# Altium integrated library Linear Technology Power Management Hot Swap Controllers.IntLib: 992 symbols (part 85 of 93)
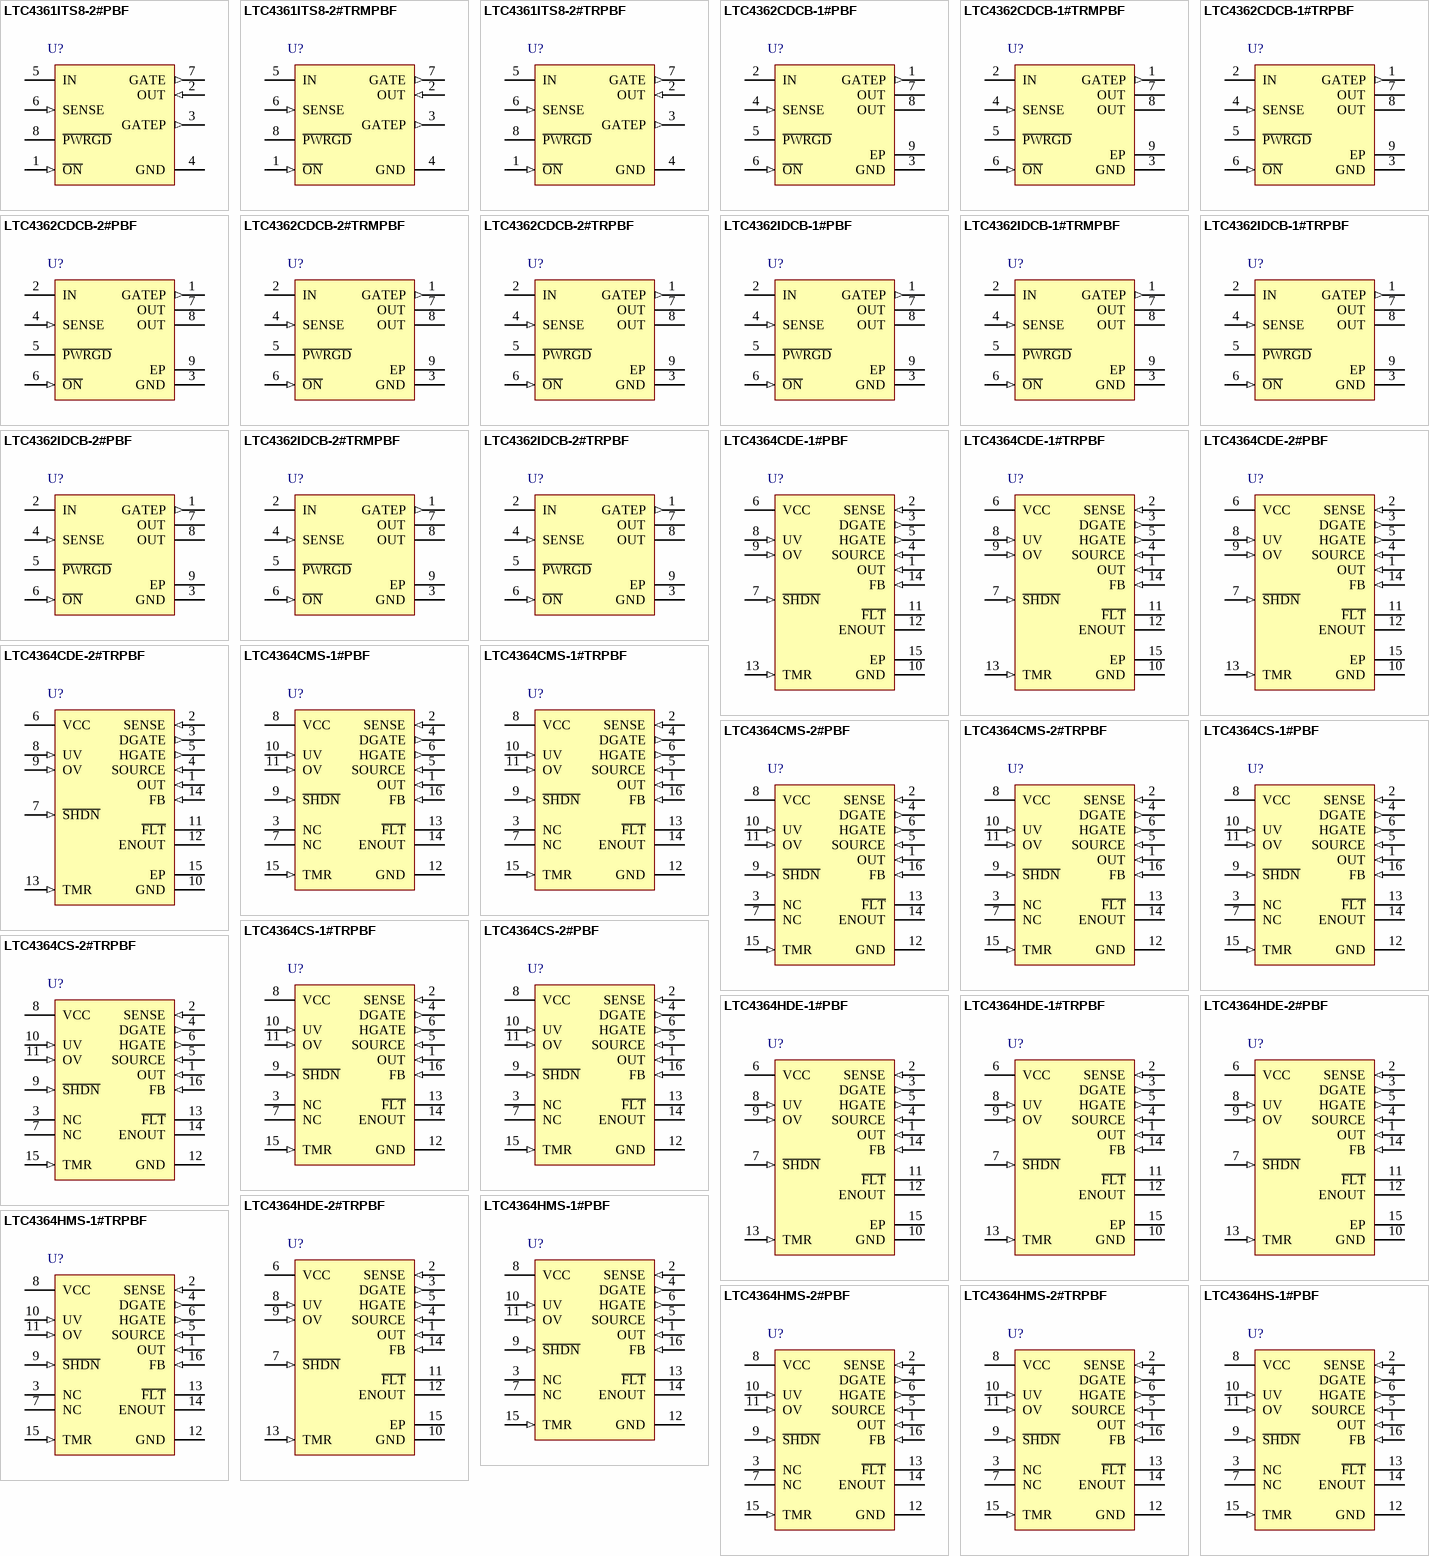
[diagram p121: symbols LTC4361ITS8-2#PBF to LTC4364HS-1#PBF]

## LTC4362CDCB-1#PBF
designator U?
1.2 A Overvoltage / Overcurrent Protector, 2.5 to 28 V Vin, 8-pin SON (DCB-8), 0 to 70 degC, Pb-Free; Manufacturer: Linear Technology; PartNumber: LTC4362CDCB-1#PBF; Active Limiting: no; Circuit Breaker Accuracy(%): 20; Circuit Breaker Threshold: 1.5 A; Circuit Breakers(#): 1; Extended Temp: C, I; DatasheetVersion: Rev. A; PackageVersion: Rev. A, 06/2010; PackageReference: DCB-8; PackageDescription: 8-Pin Plastic DFN, Body 2 x 3 mm, Pitch 0.45 mm; Supplier 1: Newark; Supplier Part Number 1: 84R7843; Fault: no; Foldback: no; Power Good: no; Reset: no; RoHS: TRUE; Vin Range: 2.5 to 28 V; Mounting Technology: Surface Mount; ComponentLink1Description: Manufacturer URL; ComponentLink1URL: http://www.linear.com/; ComponentLink2Description: Datasheet; ComponentLink2URL: http://cds.linear.com/docs/en/datasheet/436212fa.pdf; ComponentLink3Description: Package Specification; ComponentLink3URL: http://cds.linear.com/docs/en/packaging/DFN_8_05-08-1718.pdf
footprint LT-DCB-8_V (SON, 8-Leads, Body 3x2mm, Pitch 0.45mm, Thermal Pad 1.65x1.35mm)
pins: 1 GATEP (out) "Gate Drive for External P-channel MOSFET. GATEP connects to the gate of an optional external P-channel MOSFET to protect against negative voltages at IN. Internally clamped to 5.8V below VIN. An internal 2M resistor connects (See Datasheet)", 2 IN (power) "Supply Voltage Input. Connect this pin to the input power supply. This pin has an overvoltage threshold of 5.8V. After an overvoltage event, this pin must fall below VIN(OV) - deltaVOV to release the overvoltage lockout. (See Datasheet)", 3 GND (power) "Device Ground.", 4 SENSE (in) "Current Sense Node and Internal N-channel MOSFET Drain. An internal sense resistor between IN and SENSE is used to implement the 1.5A overcurrent threshold. The exposed pad is connected to SENSE and must be soldered to an (See Datasheet)", 5 ~{PWRGD} (hiz) "Power Good Status. Open-drain output with internal 500k resistive pull-up to OUT. Pulls low 65ms after the MOSFET gate ramps above its internal gate high threshold.", 6 ~{ON} (in) "On Control Input. A logic low at O\N\ enables the LTC4362. A logic high at O\N\ activates a low current pulldown on the gate of the internal N-channel MOSFET and causes the LTC4362 to enter a low current sleep mode. An (See Datasheet)", 7 OUT (power) "Source of Internal N-channel MOSFET. Connect to load.", 8 OUT (power) "Source of Internal N-channel MOSFET. Connect to load.", 9 EP (power) "Current Sense Node and Internal N-channel MOSFET Drain. An internal sense resistor between IN and SENSE is used to implement the 1.5A overcurrent threshold. The exposed pad is connected to SENSE and must be soldered to an (See Datasheet)"

## LTC4362CDCB-1#TRMPBF
designator U?
1.2 A Overvoltage / Overcurrent Protector, 2.5 to 28 V Vin, 8-pin SON (DCB-8), 0 to 70 degC, Pb-Free, Mini Tape and Reel; Manufacturer: Linear Technology; PartNumber: LTC4362CDCB-1#TRMPBF; Active Limiting: no; Circuit Breaker Accuracy(%): 20; Circuit Breaker Threshold: 1.5 A; Circuit Breakers(#): 1; Extended Temp: C, I; DatasheetVersion: Rev. A; PackageVersion: Rev. A, 06/2010; PackageReference: DCB-8; PackageDescription: 8-Pin Plastic DFN, Body 2 x 3 mm, Pitch 0.45 mm; Supplier 1: Digi-Key; Supplier Part Number 1: LTC4362CDCB-1#TRMPBFTR-ND; Supplier 2: Digi-Key; Supplier Part Number 2: LTC4362CDCB-1#TRMPBFCT-ND; Supplier 3: Digi-Key; Supplier Part Number 3: LTC4362CDCB-1#TRMPBFDKR-ND; Fault: no; Foldback: no; Packing: Mini Tape and Reel; Power Good: no; Reset: no; RoHS: TRUE; Vin Range: 2.5 to 28 V; Mounting Technology: Surface Mount; ComponentLink1Description: Manufacturer URL; ComponentLink1URL: http://www.linear.com/; ComponentLink2Description: Datasheet; ComponentLink2URL: http://cds.linear.com/docs/en/datasheet/436212fa.pdf; ComponentLink3Description: Package Specification; ComponentLink3URL: http://cds.linear.com/docs/en/packaging/DFN_8_05-08-1718.pdf
footprint LT-DCB-8_V (SON, 8-Leads, Body 3x2mm, Pitch 0.45mm, Thermal Pad 1.65x1.35mm)
pins: 1 GATEP (out) "Gate Drive for External P-channel MOSFET. GATEP connects to the gate of an optional external P-channel MOSFET to protect against negative voltages at IN. Internally clamped to 5.8V below VIN. An internal 2M resistor connects (See Datasheet)", 2 IN (power) "Supply Voltage Input. Connect this pin to the input power supply. This pin has an overvoltage threshold of 5.8V. After an overvoltage event, this pin must fall below VIN(OV) - deltaVOV to release the overvoltage lockout. (See Datasheet)", 3 GND (power) "Device Ground.", 4 SENSE (in) "Current Sense Node and Internal N-channel MOSFET Drain. An internal sense resistor between IN and SENSE is used to implement the 1.5A overcurrent threshold. The exposed pad is connected to SENSE and must be soldered to an (See Datasheet)", 5 ~{PWRGD} (hiz) "Power Good Status. Open-drain output with internal 500k resistive pull-up to OUT. Pulls low 65ms after the MOSFET gate ramps above its internal gate high threshold.", 6 ~{ON} (in) "On Control Input. A logic low at O\N\ enables the LTC4362. A logic high at O\N\ activates a low current pulldown on the gate of the internal N-channel MOSFET and causes the LTC4362 to enter a low current sleep mode. An (See Datasheet)", 7 OUT (power) "Source of Internal N-channel MOSFET. Connect to load.", 8 OUT (power) "Source of Internal N-channel MOSFET. Connect to load.", 9 EP (power) "Current Sense Node and Internal N-channel MOSFET Drain. An internal sense resistor between IN and SENSE is used to implement the 1.5A overcurrent threshold. The exposed pad is connected to SENSE and must be soldered to an (See Datasheet)"

## LTC4362CDCB-1#TRPBF
designator U?
1.2 A Overvoltage / Overcurrent Protector, 2.5 to 28 V Vin, 8-pin SON (DCB-8), 0 to 70 degC, Pb-Free, Tape and Reel; Manufacturer: Linear Technology; PartNumber: LTC4362CDCB-1#TRPBF; Active Limiting: no; Circuit Breaker Accuracy(%): 20; Circuit Breaker Threshold: 1.5 A; Circuit Breakers(#): 1; Extended Temp: C, I; DatasheetVersion: Rev. A; PackageVersion: Rev. A, 06/2010; PackageReference: DCB-8; PackageDescription: 8-Pin Plastic DFN, Body 2 x 3 mm, Pitch 0.45 mm; Supplier 1: Digi-Key; Supplier Part Number 1: LTC4362CDCB-1#TRPBF-ND; Fault: no; Foldback: no; Packing: Tape and Reel; Power Good: no; Reset: no; RoHS: TRUE; Vin Range: 2.5 to 28 V; Mounting Technology: Surface Mount; ComponentLink1Description: Manufacturer URL; ComponentLink1URL: http://www.linear.com/; ComponentLink2Description: Datasheet; ComponentLink2URL: http://cds.linear.com/docs/en/datasheet/436212fa.pdf; ComponentLink3Description: Package Specification; ComponentLink3URL: http://cds.linear.com/docs/en/packaging/DFN_8_05-08-1718.pdf
footprint LT-DCB-8_V (SON, 8-Leads, Body 3x2mm, Pitch 0.45mm, Thermal Pad 1.65x1.35mm)
pins: 1 GATEP (out) "Gate Drive for External P-channel MOSFET. GATEP connects to the gate of an optional external P-channel MOSFET to protect against negative voltages at IN. Internally clamped to 5.8V below VIN. An internal 2M resistor connects (See Datasheet)", 2 IN (power) "Supply Voltage Input. Connect this pin to the input power supply. This pin has an overvoltage threshold of 5.8V. After an overvoltage event, this pin must fall below VIN(OV) - deltaVOV to release the overvoltage lockout. (See Datasheet)", 3 GND (power) "Device Ground.", 4 SENSE (in) "Current Sense Node and Internal N-channel MOSFET Drain. An internal sense resistor between IN and SENSE is used to implement the 1.5A overcurrent threshold. The exposed pad is connected to SENSE and must be soldered to an (See Datasheet)", 5 ~{PWRGD} (hiz) "Power Good Status. Open-drain output with internal 500k resistive pull-up to OUT. Pulls low 65ms after the MOSFET gate ramps above its internal gate high threshold.", 6 ~{ON} (in) "On Control Input. A logic low at O\N\ enables the LTC4362. A logic high at O\N\ activates a low current pulldown on the gate of the internal N-channel MOSFET and causes the LTC4362 to enter a low current sleep mode. An (See Datasheet)", 7 OUT (power) "Source of Internal N-channel MOSFET. Connect to load.", 8 OUT (power) "Source of Internal N-channel MOSFET. Connect to load.", 9 EP (power) "Current Sense Node and Internal N-channel MOSFET Drain. An internal sense resistor between IN and SENSE is used to implement the 1.5A overcurrent threshold. The exposed pad is connected to SENSE and must be soldered to an (See Datasheet)"

## LTC4362CDCB-2#PBF
designator U?
1.2 A Overvoltage / Overcurrent Protector, 2.5 to 28 V Vin, 8-pin SON (DCB-8), 0 to 70 degC, Pb-Free; Manufacturer: Linear Technology; PartNumber: LTC4362CDCB-2#PBF; Active Limiting: no; Circuit Breaker Accuracy(%): 20; Circuit Breaker Threshold: 1.5 A; Circuit Breakers(#): 1; Extended Temp: C, I; DatasheetVersion: Rev. A; PackageVersion: Rev. A, 06/2010; PackageReference: DCB-8; PackageDescription: 8-Pin Plastic DFN, Body 2 x 3 mm, Pitch 0.45 mm; Supplier 1: Farnell; Supplier Part Number 1: 1847655; Supplier 2: Newark; Supplier Part Number 2: 84R7844; Fault: no; Foldback: no; Power Good: no; RoHS: TRUE; Vin Range: 2.5 to 28 V; Mounting Technology: Surface Mount; ComponentLink1Description: Manufacturer URL; ComponentLink1URL: http://www.linear.com/; ComponentLink2Description: Datasheet; ComponentLink2URL: http://cds.linear.com/docs/en/datasheet/436212fa.pdf; ComponentLink3Description: Package Specification; ComponentLink3URL: http://cds.linear.com/docs/en/packaging/DFN_8_05-08-1718.pdf
footprint LT-DCB-8_V (SON, 8-Leads, Body 3x2mm, Pitch 0.45mm, Thermal Pad 1.65x1.35mm)
pins: 1 GATEP (out) "Gate Drive for External P-channel MOSFET. GATEP connects to the gate of an optional external P-channel MOSFET to protect against negative voltages at IN. Internally clamped to 5.8V below VIN. An internal 2M resistor connects (See Datasheet)", 2 IN (power) "Supply Voltage Input. Connect this pin to the input power supply. This pin has an overvoltage threshold of 5.8V. After an overvoltage event, this pin must fall below VIN(OV) - deltaVOV to release the overvoltage lockout. (See Datasheet)", 3 GND (power) "Device Ground.", 4 SENSE (in) "Current Sense Node and Internal N-channel MOSFET Drain. An internal sense resistor between IN and SENSE is used to implement the 1.5A overcurrent threshold. The exposed pad is connected to SENSE and must be soldered to an (See Datasheet)", 5 ~{PWRGD} (hiz) "Power Good Status. Open-drain output with internal 500k resistive pull-up to OUT. Pulls low 65ms after the MOSFET gate ramps above its internal gate high threshold.", 6 ~{ON} (in) "On Control Input. A logic low at O\N\ enables the LTC4362. A logic high at O\N\ activates a low current pulldown on the gate of the internal N-channel MOSFET and causes the LTC4362 to enter a low current sleep mode. An (See Datasheet)", 7 OUT (power) "Source of Internal N-channel MOSFET. Connect to load.", 8 OUT (power) "Source of Internal N-channel MOSFET. Connect to load.", 9 EP (power) "Current Sense Node and Internal N-channel MOSFET Drain. An internal sense resistor between IN and SENSE is used to implement the 1.5A overcurrent threshold. The exposed pad is connected to SENSE and must be soldered to an (See Datasheet)"

## LTC4362CDCB-2#TRMPBF
designator U?
1.2 A Overvoltage / Overcurrent Protector, 2.5 to 28 V Vin, 8-pin SON (DCB-8), 0 to 70 degC, Pb-Free, Mini Tape and Reel; Manufacturer: Linear Technology; PartNumber: LTC4362CDCB-2#TRMPBF; Active Limiting: no; Circuit Breaker Accuracy(%): 20; Circuit Breaker Threshold: 1.5 A; Circuit Breakers(#): 1; Extended Temp: C, I; DatasheetVersion: Rev. A; PackageVersion: Rev. A, 06/2010; PackageReference: DCB-8; PackageDescription: 8-Pin Plastic DFN, Body 2 x 3 mm, Pitch 0.45 mm; Supplier 1: Digi-Key; Supplier Part Number 1: LTC4362CDCB-2#TRMPBFTR-ND; Supplier 2: Digi-Key; Supplier Part Number 2: LTC4362CDCB-2#TRMPBFCT-ND; Supplier 3: Digi-Key; Supplier Part Number 3: LTC4362CDCB-2#TRMPBFDKR-ND; Fault: no; Foldback: no; Packing: Mini Tape and Reel; Power Good: no; RoHS: TRUE; Vin Range: 2.5 to 28 V; Mounting Technology: Surface Mount; ComponentLink1Description: Manufacturer URL; ComponentLink1URL: http://www.linear.com/; ComponentLink2Description: Datasheet; ComponentLink2URL: http://cds.linear.com/docs/en/datasheet/436212fa.pdf; ComponentLink3Description: Package Specification; ComponentLink3URL: http://cds.linear.com/docs/en/packaging/DFN_8_05-08-1718.pdf
footprint LT-DCB-8_V (SON, 8-Leads, Body 3x2mm, Pitch 0.45mm, Thermal Pad 1.65x1.35mm)
pins: 1 GATEP (out) "Gate Drive for External P-channel MOSFET. GATEP connects to the gate of an optional external P-channel MOSFET to protect against negative voltages at IN. Internally clamped to 5.8V below VIN. An internal 2M resistor connects (See Datasheet)", 2 IN (power) "Supply Voltage Input. Connect this pin to the input power supply. This pin has an overvoltage threshold of 5.8V. After an overvoltage event, this pin must fall below VIN(OV) - deltaVOV to release the overvoltage lockout. (See Datasheet)", 3 GND (power) "Device Ground.", 4 SENSE (in) "Current Sense Node and Internal N-channel MOSFET Drain. An internal sense resistor between IN and SENSE is used to implement the 1.5A overcurrent threshold. The exposed pad is connected to SENSE and must be soldered to an (See Datasheet)", 5 ~{PWRGD} (hiz) "Power Good Status. Open-drain output with internal 500k resistive pull-up to OUT. Pulls low 65ms after the MOSFET gate ramps above its internal gate high threshold.", 6 ~{ON} (in) "On Control Input. A logic low at O\N\ enables the LTC4362. A logic high at O\N\ activates a low current pulldown on the gate of the internal N-channel MOSFET and causes the LTC4362 to enter a low current sleep mode. An (See Datasheet)", 7 OUT (power) "Source of Internal N-channel MOSFET. Connect to load.", 8 OUT (power) "Source of Internal N-channel MOSFET. Connect to load.", 9 EP (power) "Current Sense Node and Internal N-channel MOSFET Drain. An internal sense resistor between IN and SENSE is used to implement the 1.5A overcurrent threshold. The exposed pad is connected to SENSE and must be soldered to an (See Datasheet)"

## LTC4362CDCB-2#TRPBF
designator U?
1.2 A Overvoltage / Overcurrent Protector, 2.5 to 28 V Vin, 8-pin SON (DCB-8), 0 to 70 degC, Pb-Free, Tape and Reel; Manufacturer: Linear Technology; PartNumber: LTC4362CDCB-2#TRPBF; Active Limiting: no; Circuit Breaker Accuracy(%): 20; Circuit Breaker Threshold: 1.5 A; Circuit Breakers(#): 1; Extended Temp: C, I; DatasheetVersion: Rev. A; PackageVersion: Rev. A, 06/2010; PackageReference: DCB-8; PackageDescription: 8-Pin Plastic DFN, Body 2 x 3 mm, Pitch 0.45 mm; Supplier 1: Digi-Key; Supplier Part Number 1: LTC4362CDCB-2#TRPBF-ND; Fault: no; Foldback: no; Packing: Tape and Reel; Power Good: no; RoHS: TRUE; Vin Range: 2.5 to 28 V; Mounting Technology: Surface Mount; ComponentLink1Description: Manufacturer URL; ComponentLink1URL: http://www.linear.com/; ComponentLink2Description: Datasheet; ComponentLink2URL: http://cds.linear.com/docs/en/datasheet/436212fa.pdf; ComponentLink3Description: Package Specification; ComponentLink3URL: http://cds.linear.com/docs/en/packaging/DFN_8_05-08-1718.pdf
footprint LT-DCB-8_V (SON, 8-Leads, Body 3x2mm, Pitch 0.45mm, Thermal Pad 1.65x1.35mm)
pins: 1 GATEP (out) "Gate Drive for External P-channel MOSFET. GATEP connects to the gate of an optional external P-channel MOSFET to protect against negative voltages at IN. Internally clamped to 5.8V below VIN. An internal 2M resistor connects (See Datasheet)", 2 IN (power) "Supply Voltage Input. Connect this pin to the input power supply. This pin has an overvoltage threshold of 5.8V. After an overvoltage event, this pin must fall below VIN(OV) - deltaVOV to release the overvoltage lockout. (See Datasheet)", 3 GND (power) "Device Ground.", 4 SENSE (in) "Current Sense Node and Internal N-channel MOSFET Drain. An internal sense resistor between IN and SENSE is used to implement the 1.5A overcurrent threshold. The exposed pad is connected to SENSE and must be soldered to an (See Datasheet)", 5 ~{PWRGD} (hiz) "Power Good Status. Open-drain output with internal 500k resistive pull-up to OUT. Pulls low 65ms after the MOSFET gate ramps above its internal gate high threshold.", 6 ~{ON} (in) "On Control Input. A logic low at O\N\ enables the LTC4362. A logic high at O\N\ activates a low current pulldown on the gate of the internal N-channel MOSFET and causes the LTC4362 to enter a low current sleep mode. An (See Datasheet)", 7 OUT (power) "Source of Internal N-channel MOSFET. Connect to load.", 8 OUT (power) "Source of Internal N-channel MOSFET. Connect to load.", 9 EP (power) "Current Sense Node and Internal N-channel MOSFET Drain. An internal sense resistor between IN and SENSE is used to implement the 1.5A overcurrent threshold. The exposed pad is connected to SENSE and must be soldered to an (See Datasheet)"

## LTC4362IDCB-1#PBF
designator U?
1.2 A Overvoltage / Overcurrent Protector, 2.5 to 28 V Vin, 8-pin SON (DCB-8), -40 to 85 degC, Pb-Free; Manufacturer: Linear Technology; PartNumber: LTC4362IDCB-1#PBF; Active Limiting: no; Circuit Breaker Accuracy(%): 20; Circuit Breaker Threshold: 1.5 A; Circuit Breakers(#): 1; Extended Temp: C, I; DatasheetVersion: Rev. A; PackageVersion: Rev. A, 06/2010; PackageReference: DCB-8; PackageDescription: 8-Pin Plastic DFN, Body 2 x 3 mm, Pitch 0.45 mm; Fault: no; Foldback: no; Power Good: no; Reset: no; RoHS: TRUE; Vin Range: 2.5 to 28 V; Mounting Technology: Surface Mount; ComponentLink1Description: Manufacturer URL; ComponentLink1URL: http://www.linear.com/; ComponentLink2Description: Datasheet; ComponentLink2URL: http://cds.linear.com/docs/en/datasheet/436212fa.pdf; ComponentLink3Description: Package Specification; ComponentLink3URL: http://cds.linear.com/docs/en/packaging/DFN_8_05-08-1718.pdf
footprint LT-DCB-8_V (SON, 8-Leads, Body 3x2mm, Pitch 0.45mm, Thermal Pad 1.65x1.35mm)
pins: 1 GATEP (out) "Gate Drive for External P-channel MOSFET. GATEP connects to the gate of an optional external P-channel MOSFET to protect against negative voltages at IN. Internally clamped to 5.8V below VIN. An internal 2M resistor connects (See Datasheet)", 2 IN (power) "Supply Voltage Input. Connect this pin to the input power supply. This pin has an overvoltage threshold of 5.8V. After an overvoltage event, this pin must fall below VIN(OV) - deltaVOV to release the overvoltage lockout. (See Datasheet)", 3 GND (power) "Device Ground.", 4 SENSE (in) "Current Sense Node and Internal N-channel MOSFET Drain. An internal sense resistor between IN and SENSE is used to implement the 1.5A overcurrent threshold. The exposed pad is connected to SENSE and must be soldered to an (See Datasheet)", 5 ~{PWRGD} (hiz) "Power Good Status. Open-drain output with internal 500k resistive pull-up to OUT. Pulls low 65ms after the MOSFET gate ramps above its internal gate high threshold.", 6 ~{ON} (in) "On Control Input. A logic low at O\N\ enables the LTC4362. A logic high at O\N\ activates a low current pulldown on the gate of the internal N-channel MOSFET and causes the LTC4362 to enter a low current sleep mode. An (See Datasheet)", 7 OUT (power) "Source of Internal N-channel MOSFET. Connect to load.", 8 OUT (power) "Source of Internal N-channel MOSFET. Connect to load.", 9 EP (power) "Current Sense Node and Internal N-channel MOSFET Drain. An internal sense resistor between IN and SENSE is used to implement the 1.5A overcurrent threshold. The exposed pad is connected to SENSE and must be soldered to an (See Datasheet)"

## LTC4362IDCB-1#TRMPBF
designator U?
1.2 A Overvoltage / Overcurrent Protector, 2.5 to 28 V Vin, 8-pin SON (DCB-8), -40 to 85 degC, Pb-Free, Mini Tape and Reel; Manufacturer: Linear Technology; PartNumber: LTC4362IDCB-1#TRMPBF; Active Limiting: no; Circuit Breaker Accuracy(%): 20; Circuit Breaker Threshold: 1.5 A; Circuit Breakers(#): 1; Extended Temp: C, I; DatasheetVersion: Rev. A; PackageVersion: Rev. A, 06/2010; PackageReference: DCB-8; PackageDescription: 8-Pin Plastic DFN, Body 2 x 3 mm, Pitch 0.45 mm; Supplier 1: Digi-Key; Supplier Part Number 1: LTC4362IDCB-1#TRMPBFTR-ND; Supplier 2: Digi-Key; Supplier Part Number 2: LTC4362IDCB-1#TRMPBFCT-ND; Supplier 3: Digi-Key; Supplier Part Number 3: LTC4362IDCB-1#TRMPBFDKR-ND; Fault: no; Foldback: no; Packing: Mini Tape and Reel; Power Good: no; Reset: no; RoHS: TRUE; Vin Range: 2.5 to 28 V; Mounting Technology: Surface Mount; ComponentLink1Description: Manufacturer URL; ComponentLink1URL: http://www.linear.com/; ComponentLink2Description: Datasheet; ComponentLink2URL: http://cds.linear.com/docs/en/datasheet/436212fa.pdf; ComponentLink3Description: Package Specification; ComponentLink3URL: http://cds.linear.com/docs/en/packaging/DFN_8_05-08-1718.pdf
footprint LT-DCB-8_V (SON, 8-Leads, Body 3x2mm, Pitch 0.45mm, Thermal Pad 1.65x1.35mm)
pins: 1 GATEP (out) "Gate Drive for External P-channel MOSFET. GATEP connects to the gate of an optional external P-channel MOSFET to protect against negative voltages at IN. Internally clamped to 5.8V below VIN. An internal 2M resistor connects (See Datasheet)", 2 IN (power) "Supply Voltage Input. Connect this pin to the input power supply. This pin has an overvoltage threshold of 5.8V. After an overvoltage event, this pin must fall below VIN(OV) - deltaVOV to release the overvoltage lockout. (See Datasheet)", 3 GND (power) "Device Ground.", 4 SENSE (in) "Current Sense Node and Internal N-channel MOSFET Drain. An internal sense resistor between IN and SENSE is used to implement the 1.5A overcurrent threshold. The exposed pad is connected to SENSE and must be soldered to an (See Datasheet)", 5 ~{PWRGD} (hiz) "Power Good Status. Open-drain output with internal 500k resistive pull-up to OUT. Pulls low 65ms after the MOSFET gate ramps above its internal gate high threshold.", 6 ~{ON} (in) "On Control Input. A logic low at O\N\ enables the LTC4362. A logic high at O\N\ activates a low current pulldown on the gate of the internal N-channel MOSFET and causes the LTC4362 to enter a low current sleep mode. An (See Datasheet)", 7 OUT (power) "Source of Internal N-channel MOSFET. Connect to load.", 8 OUT (power) "Source of Internal N-channel MOSFET. Connect to load.", 9 EP (power) "Current Sense Node and Internal N-channel MOSFET Drain. An internal sense resistor between IN and SENSE is used to implement the 1.5A overcurrent threshold. The exposed pad is connected to SENSE and must be soldered to an (See Datasheet)"

## LTC4362IDCB-1#TRPBF
designator U?
1.2 A Overvoltage / Overcurrent Protector, 2.5 to 28 V Vin, 8-pin SON (DCB-8), -40 to 85 degC, Pb-Free, Tape and Reel; Manufacturer: Linear Technology; PartNumber: LTC4362IDCB-1#TRPBF; Active Limiting: no; Circuit Breaker Accuracy(%): 20; Circuit Breaker Threshold: 1.5 A; Circuit Breakers(#): 1; Extended Temp: C, I; DatasheetVersion: Rev. A; PackageVersion: Rev. A, 06/2010; PackageReference: DCB-8; PackageDescription: 8-Pin Plastic DFN, Body 2 x 3 mm, Pitch 0.45 mm; Supplier 1: Digi-Key; Supplier Part Number 1: LTC4362IDCB-1#TRPBF-ND; Fault: no; Foldback: no; Packing: Tape and Reel; Power Good: no; Reset: no; RoHS: TRUE; Vin Range: 2.5 to 28 V; Mounting Technology: Surface Mount; ComponentLink1Description: Manufacturer URL; ComponentLink1URL: http://www.linear.com/; ComponentLink2Description: Datasheet; ComponentLink2URL: http://cds.linear.com/docs/en/datasheet/436212fa.pdf; ComponentLink3Description: Package Specification; ComponentLink3URL: http://cds.linear.com/docs/en/packaging/DFN_8_05-08-1718.pdf
footprint LT-DCB-8_V (SON, 8-Leads, Body 3x2mm, Pitch 0.45mm, Thermal Pad 1.65x1.35mm)
pins: 1 GATEP (out) "Gate Drive for External P-channel MOSFET. GATEP connects to the gate of an optional external P-channel MOSFET to protect against negative voltages at IN. Internally clamped to 5.8V below VIN. An internal 2M resistor connects (See Datasheet)", 2 IN (power) "Supply Voltage Input. Connect this pin to the input power supply. This pin has an overvoltage threshold of 5.8V. After an overvoltage event, this pin must fall below VIN(OV) - deltaVOV to release the overvoltage lockout. (See Datasheet)", 3 GND (power) "Device Ground.", 4 SENSE (in) "Current Sense Node and Internal N-channel MOSFET Drain. An internal sense resistor between IN and SENSE is used to implement the 1.5A overcurrent threshold. The exposed pad is connected to SENSE and must be soldered to an (See Datasheet)", 5 ~{PWRGD} (hiz) "Power Good Status. Open-drain output with internal 500k resistive pull-up to OUT. Pulls low 65ms after the MOSFET gate ramps above its internal gate high threshold.", 6 ~{ON} (in) "On Control Input. A logic low at O\N\ enables the LTC4362. A logic high at O\N\ activates a low current pulldown on the gate of the internal N-channel MOSFET and causes the LTC4362 to enter a low current sleep mode. An (See Datasheet)", 7 OUT (power) "Source of Internal N-channel MOSFET. Connect to load.", 8 OUT (power) "Source of Internal N-channel MOSFET. Connect to load.", 9 EP (power) "Current Sense Node and Internal N-channel MOSFET Drain. An internal sense resistor between IN and SENSE is used to implement the 1.5A overcurrent threshold. The exposed pad is connected to SENSE and must be soldered to an (See Datasheet)"

## LTC4362IDCB-2#PBF
designator U?
1.2 A Overvoltage / Overcurrent Protector, 2.5 to 28 V Vin, 8-pin SON (DCB-8), -40 to 85 degC, Pb-Free; Manufacturer: Linear Technology; PartNumber: LTC4362IDCB-2#PBF; Active Limiting: no; Circuit Breaker Accuracy(%): 20; Circuit Breaker Threshold: 1.5 A; Circuit Breakers(#): 1; Extended Temp: C, I; DatasheetVersion: Rev. A; PackageVersion: Rev. A, 06/2010; PackageReference: DCB-8; PackageDescription: 8-Pin Plastic DFN, Body 2 x 3 mm, Pitch 0.45 mm; Supplier 1: Farnell; Supplier Part Number 1: 2295346; Supplier 2: Newark; Supplier Part Number 2: 78T3382; Fault: no; Foldback: no; Power Good: no; RoHS: TRUE; Vin Range: 2.5 to 28 V; Mounting Technology: Surface Mount; ComponentLink1Description: Manufacturer URL; ComponentLink1URL: http://www.linear.com/; ComponentLink2Description: Datasheet; ComponentLink2URL: http://cds.linear.com/docs/en/datasheet/436212fa.pdf; ComponentLink3Description: Package Specification; ComponentLink3URL: http://cds.linear.com/docs/en/packaging/DFN_8_05-08-1718.pdf
footprint LT-DCB-8_V (SON, 8-Leads, Body 3x2mm, Pitch 0.45mm, Thermal Pad 1.65x1.35mm)
pins: 1 GATEP (out) "Gate Drive for External P-channel MOSFET. GATEP connects to the gate of an optional external P-channel MOSFET to protect against negative voltages at IN. Internally clamped to 5.8V below VIN. An internal 2M resistor connects (See Datasheet)", 2 IN (power) "Supply Voltage Input. Connect this pin to the input power supply. This pin has an overvoltage threshold of 5.8V. After an overvoltage event, this pin must fall below VIN(OV) - deltaVOV to release the overvoltage lockout. (See Datasheet)", 3 GND (power) "Device Ground.", 4 SENSE (in) "Current Sense Node and Internal N-channel MOSFET Drain. An internal sense resistor between IN and SENSE is used to implement the 1.5A overcurrent threshold. The exposed pad is connected to SENSE and must be soldered to an (See Datasheet)", 5 ~{PWRGD} (hiz) "Power Good Status. Open-drain output with internal 500k resistive pull-up to OUT. Pulls low 65ms after the MOSFET gate ramps above its internal gate high threshold.", 6 ~{ON} (in) "On Control Input. A logic low at O\N\ enables the LTC4362. A logic high at O\N\ activates a low current pulldown on the gate of the internal N-channel MOSFET and causes the LTC4362 to enter a low current sleep mode. An (See Datasheet)", 7 OUT (power) "Source of Internal N-channel MOSFET. Connect to load.", 8 OUT (power) "Source of Internal N-channel MOSFET. Connect to load.", 9 EP (power) "Current Sense Node and Internal N-channel MOSFET Drain. An internal sense resistor between IN and SENSE is used to implement the 1.5A overcurrent threshold. The exposed pad is connected to SENSE and must be soldered to an (See Datasheet)"

## LTC4362IDCB-2#TRMPBF
designator U?
1.2 A Overvoltage / Overcurrent Protector, 2.5 to 28 V Vin, 8-pin SON (DCB-8), -40 to 85 degC, Pb-Free, Mini Tape and Reel; Manufacturer: Linear Technology; PartNumber: LTC4362IDCB-2#TRMPBF; Active Limiting: no; Circuit Breaker Accuracy(%): 20; Circuit Breaker Threshold: 1.5 A; Circuit Breakers(#): 1; Extended Temp: C, I; DatasheetVersion: Rev. A; PackageVersion: Rev. A, 06/2010; PackageReference: DCB-8; PackageDescription: 8-Pin Plastic DFN, Body 2 x 3 mm, Pitch 0.45 mm; Supplier 1: Digi-Key; Supplier Part Number 1: LTC4362IDCB-2#TRMPBFTR-ND; Supplier 2: Digi-Key; Supplier Part Number 2: LTC4362IDCB-2#TRMPBFCT-ND; Supplier 3: Digi-Key; Supplier Part Number 3: LTC4362IDCB-2#TRMPBFDKR-ND; Supplier 4: Newark; Supplier Part Number 4: 13T4024; Fault: no; Foldback: no; Packing: Mini Tape and Reel; Power Good: no; RoHS: TRUE; Vin Range: 2.5 to 28 V; Mounting Technology: Surface Mount; ComponentLink1Description: Manufacturer URL; ComponentLink1URL: http://www.linear.com/; ComponentLink2Description: Datasheet; ComponentLink2URL: http://cds.linear.com/docs/en/datasheet/436212fa.pdf; ComponentLink3Description: Package Specification; ComponentLink3URL: http://cds.linear.com/docs/en/packaging/DFN_8_05-08-1718.pdf
footprint LT-DCB-8_V (SON, 8-Leads, Body 3x2mm, Pitch 0.45mm, Thermal Pad 1.65x1.35mm)
pins: 1 GATEP (out) "Gate Drive for External P-channel MOSFET. GATEP connects to the gate of an optional external P-channel MOSFET to protect against negative voltages at IN. Internally clamped to 5.8V below VIN. An internal 2M resistor connects (See Datasheet)", 2 IN (power) "Supply Voltage Input. Connect this pin to the input power supply. This pin has an overvoltage threshold of 5.8V. After an overvoltage event, this pin must fall below VIN(OV) - deltaVOV to release the overvoltage lockout. (See Datasheet)", 3 GND (power) "Device Ground.", 4 SENSE (in) "Current Sense Node and Internal N-channel MOSFET Drain. An internal sense resistor between IN and SENSE is used to implement the 1.5A overcurrent threshold. The exposed pad is connected to SENSE and must be soldered to an (See Datasheet)", 5 ~{PWRGD} (hiz) "Power Good Status. Open-drain output with internal 500k resistive pull-up to OUT. Pulls low 65ms after the MOSFET gate ramps above its internal gate high threshold.", 6 ~{ON} (in) "On Control Input. A logic low at O\N\ enables the LTC4362. A logic high at O\N\ activates a low current pulldown on the gate of the internal N-channel MOSFET and causes the LTC4362 to enter a low current sleep mode. An (See Datasheet)", 7 OUT (power) "Source of Internal N-channel MOSFET. Connect to load.", 8 OUT (power) "Source of Internal N-channel MOSFET. Connect to load.", 9 EP (power) "Current Sense Node and Internal N-channel MOSFET Drain. An internal sense resistor between IN and SENSE is used to implement the 1.5A overcurrent threshold. The exposed pad is connected to SENSE and must be soldered to an (See Datasheet)"

## LTC4362IDCB-2#TRPBF
designator U?
1.2 A Overvoltage / Overcurrent Protector, 2.5 to 28 V Vin, 8-pin SON (DCB-8), -40 to 85 degC, Pb-Free, Tape and Reel; Manufacturer: Linear Technology; PartNumber: LTC4362IDCB-2#TRPBF; Active Limiting: no; Circuit Breaker Accuracy(%): 20; Circuit Breaker Threshold: 1.5 A; Circuit Breakers(#): 1; Extended Temp: C, I; DatasheetVersion: Rev. A; PackageVersion: Rev. A, 06/2010; PackageReference: DCB-8; PackageDescription: 8-Pin Plastic DFN, Body 2 x 3 mm, Pitch 0.45 mm; Supplier 1: Digi-Key; Supplier Part Number 1: LTC4362IDCB-2#TRPBF-ND; Fault: no; Foldback: no; Packing: Tape and Reel; Power Good: no; RoHS: TRUE; Vin Range: 2.5 to 28 V; Mounting Technology: Surface Mount; ComponentLink1Description: Manufacturer URL; ComponentLink1URL: http://www.linear.com/; ComponentLink2Description: Datasheet; ComponentLink2URL: http://cds.linear.com/docs/en/datasheet/436212fa.pdf; ComponentLink3Description: Package Specification; ComponentLink3URL: http://cds.linear.com/docs/en/packaging/DFN_8_05-08-1718.pdf
footprint LT-DCB-8_V (SON, 8-Leads, Body 3x2mm, Pitch 0.45mm, Thermal Pad 1.65x1.35mm)
pins: 1 GATEP (out) "Gate Drive for External P-channel MOSFET. GATEP connects to the gate of an optional external P-channel MOSFET to protect against negative voltages at IN. Internally clamped to 5.8V below VIN. An internal 2M resistor connects (See Datasheet)", 2 IN (power) "Supply Voltage Input. Connect this pin to the input power supply. This pin has an overvoltage threshold of 5.8V. After an overvoltage event, this pin must fall below VIN(OV) - deltaVOV to release the overvoltage lockout. (See Datasheet)", 3 GND (power) "Device Ground.", 4 SENSE (in) "Current Sense Node and Internal N-channel MOSFET Drain. An internal sense resistor between IN and SENSE is used to implement the 1.5A overcurrent threshold. The exposed pad is connected to SENSE and must be soldered to an (See Datasheet)", 5 ~{PWRGD} (hiz) "Power Good Status. Open-drain output with internal 500k resistive pull-up to OUT. Pulls low 65ms after the MOSFET gate ramps above its internal gate high threshold.", 6 ~{ON} (in) "On Control Input. A logic low at O\N\ enables the LTC4362. A logic high at O\N\ activates a low current pulldown on the gate of the internal N-channel MOSFET and causes the LTC4362 to enter a low current sleep mode. An (See Datasheet)", 7 OUT (power) "Source of Internal N-channel MOSFET. Connect to load.", 8 OUT (power) "Source of Internal N-channel MOSFET. Connect to load.", 9 EP (power) "Current Sense Node and Internal N-channel MOSFET Drain. An internal sense resistor between IN and SENSE is used to implement the 1.5A overcurrent threshold. The exposed pad is connected to SENSE and must be soldered to an (See Datasheet)"

## LTC4364CDE-1#PBF
designator U?
Surge Stopper with Ideal Diode, 4 to 80 V Vin, 14-pin SON (DE-14), 0 to 70 degC, Pb-Free; Manufacturer: Linear Technology; PartNumber: LTC4364CDE-1#PBF; Circuit Breaker Accuracy(%): 10; Circuit Breaker Threshold: 50 mV; Circuit Breakers(#): 1; Extended Temp: C, I, H; Fast Comparator: no; Vin Range: 4 to 80 V; PackageVersion: Rev. B, 06/2010; PackageReference: DE-14; PackageDescription: 14-Pin Plastic DFN, Body 4 x 3 mm, Pitch 0.5 mm; Supplier 1: Digi-Key; Supplier Part Number 1: LTC4364CDE-1#PBF-ND; Supplier 2: Newark; Supplier Part Number 2: 27W9459; Power Good: no; RoHS: TRUE; Mounting Technology: Surface Mount; Code_JEDEC: MO-229; ComponentLink1Description: Manufacturer URL; ComponentLink1URL: http://www.linear.com/; ComponentLink2Description: Datasheet; ComponentLink2URL: http://cds.linear.com/docs/en/datasheet/436412f.pdf; ComponentLink3Description: Package Specification; ComponentLink3URL: http://www.linear.com/docs/en/packaging/DFN_14_05-08-1708.pdf
footprint LT-DE-14_V (SON, 14-Leads, Body 4x3mm, Pitch 0.5mm, Thermal Pad 3.3x1.7mm)
pins: 1 OUT (in) "Output Voltage Sense Input. This pin senses the voltage at the drain of the external N-channel MOSFET connected to the DGATE pin. The voltage difference between VCC and OUT sets the fault timer current. When this difference (See Datasheet)", 2 SENSE (in) "Current Sense Input. Connect this pin to the input side of the current sense resistor. The current limit circuit controls the HGATE pin to limit the sense voltage between the SENSE and OUT pins to 50mV if OUT is above 2.5V. (See Datasheet)", 3 DGATE (out) "Diode Controller Gate Drive Output. When the load current creates more than 30mV of drop across the MOSFET, the DGATE pin is pulled high by an internal charge pump current source and clamped to 12V above the SOURCE pin. When (See Datasheet)", 4 SOURCE (in) "Common Source Input and Gate Drive Return. Connect this pin directly to the sources of the external back-to-back N-channel MOSFETs. SOURCE is the anode of the ideal diode and the voltage sensed between this pin and the SENSE (See Datasheet)", 5 HGATE (out) "Surge Stopper Gate Drive Output. The HGATE pin is pulled up by an internal charge pump current source and clamped to 12V above the SOURCE pin. Both voltage and current amplifiers control the HGATE pin to regulate the output (See Datasheet)", 6 VCC (power) "Positive Supply Voltage Input. The positive supply input ranges from 4V to 80V for normal operation. It can also be pulled below ground potential by up to 40V during a reverse battery condition, without damaging the part. (See Datasheet)", 7 ~{SHDN} (in) "Shutdown Control Input. Pulling the S\H\D\N\ pin below 0.5V shuts off the LTC4364 and reduces the VCC pin current to 10uA. Pull this pin above 2.2V or disconnect it to allow the internal current source to turn the part back (See Datasheet)", 8 UV (in) "Undervoltage Comparator Input. When the UV pin falls below its 1.25V threshold, the HGATE pin is pulled down with a 1mA current. When the UV pin rises above 1.25V plus the hysteresis, the HGATE pin is pulled up by the (See Datasheet)", 9 OV (in) "Overvoltage Comparator Input. When OV is above its threshold of 1.25V, the fault retry function is inhibited. When OV falls below its threshold, the HGATE pin is allowed to turn back on when fault conditions are cleared. At (See Datasheet)", 10 GND (power) "Device Ground.", 11 ~{FLT} (hiz) "Fault Output. An open-drain output that pulls low after the TMR pin reaches the warning threshold of 1.25V. It indicates the pass device controlled by the HGATE pin is about to turn off because either the supply voltage has (See Datasheet)", 12 ENOUT (hiz) "Enable Output. An open-drain output that goes high impedance when the voltage at the OUT pin is above (VCC - 0.7V), indicating the external MOSFETs are fully on. The state of the pin is latched and resets when the OUT pin (See Datasheet)", 13 TMR (in) "Fault Timer Input. Connect a capacitor between this pin and ground to set the times for fault warning, fault turn-off, and cool down periods. Either voltage regulation or current regulation starts pulling up the TMR pin. The (See Datasheet)", 14 FB (in) "Voltage Regulator Feedback Input. Connect this pin to the resistive divider connected between the OUT pin and ground. During an overvoltage condition, the HGATE pin is controlled to maintain 1.25V at the FB pin. Connect to (See Datasheet)", 15 EP (power) "Exposed pad may be left open or connected to device ground (GND)."

## LTC4364CDE-1#TRPBF
designator U?
Surge Stopper with Ideal Diode, 4 to 80 V Vin, 14-pin SON (DE-14), 0 to 70 degC, Pb-Free, Tape and Reel; Manufacturer: Linear Technology; PartNumber: LTC4364CDE-1#TRPBF; Circuit Breaker Accuracy(%): 10; Circuit Breaker Threshold: 50 mV; Circuit Breakers(#): 1; Extended Temp: C, I, H; Fast Comparator: no; Vin Range: 4 to 80 V; PackageVersion: Rev. B, 06/2010; PackageReference: DE-14; PackageDescription: 14-Pin Plastic DFN, Body 4 x 3 mm, Pitch 0.5 mm; Supplier 1: Digi-Key; Supplier Part Number 1: LTC4364CDE-1#TRPBF-ND; Supplier 2: Newark; Supplier Part Number 2: 27W9460; Packing: Tape and Reel; Power Good: no; RoHS: TRUE; Mounting Technology: Surface Mount; Code_JEDEC: MO-229; ComponentLink1Description: Manufacturer URL; ComponentLink1URL: http://www.linear.com/; ComponentLink2Description: Datasheet; ComponentLink2URL: http://cds.linear.com/docs/en/datasheet/436412f.pdf; ComponentLink3Description: Package Specification; ComponentLink3URL: http://www.linear.com/docs/en/packaging/DFN_14_05-08-1708.pdf
footprint LT-DE-14_V (SON, 14-Leads, Body 4x3mm, Pitch 0.5mm, Thermal Pad 3.3x1.7mm)
pins: 1 OUT (in) "Output Voltage Sense Input. This pin senses the voltage at the drain of the external N-channel MOSFET connected to the DGATE pin. The voltage difference between VCC and OUT sets the fault timer current. When this difference (See Datasheet)", 2 SENSE (in) "Current Sense Input. Connect this pin to the input side of the current sense resistor. The current limit circuit controls the HGATE pin to limit the sense voltage between the SENSE and OUT pins to 50mV if OUT is above 2.5V. (See Datasheet)", 3 DGATE (out) "Diode Controller Gate Drive Output. When the load current creates more than 30mV of drop across the MOSFET, the DGATE pin is pulled high by an internal charge pump current source and clamped to 12V above the SOURCE pin. When (See Datasheet)", 4 SOURCE (in) "Common Source Input and Gate Drive Return. Connect this pin directly to the sources of the external back-to-back N-channel MOSFETs. SOURCE is the anode of the ideal diode and the voltage sensed between this pin and the SENSE (See Datasheet)", 5 HGATE (out) "Surge Stopper Gate Drive Output. The HGATE pin is pulled up by an internal charge pump current source and clamped to 12V above the SOURCE pin. Both voltage and current amplifiers control the HGATE pin to regulate the output (See Datasheet)", 6 VCC (power) "Positive Supply Voltage Input. The positive supply input ranges from 4V to 80V for normal operation. It can also be pulled below ground potential by up to 40V during a reverse battery condition, without damaging the part. (See Datasheet)", 7 ~{SHDN} (in) "Shutdown Control Input. Pulling the S\H\D\N\ pin below 0.5V shuts off the LTC4364 and reduces the VCC pin current to 10uA. Pull this pin above 2.2V or disconnect it to allow the internal current source to turn the part back (See Datasheet)", 8 UV (in) "Undervoltage Comparator Input. When the UV pin falls below its 1.25V threshold, the HGATE pin is pulled down with a 1mA current. When the UV pin rises above 1.25V plus the hysteresis, the HGATE pin is pulled up by the (See Datasheet)", 9 OV (in) "Overvoltage Comparator Input. When OV is above its threshold of 1.25V, the fault retry function is inhibited. When OV falls below its threshold, the HGATE pin is allowed to turn back on when fault conditions are cleared. At (See Datasheet)", 10 GND (power) "Device Ground.", 11 ~{FLT} (hiz) "Fault Output. An open-drain output that pulls low after the TMR pin reaches the warning threshold of 1.25V. It indicates the pass device controlled by the HGATE pin is about to turn off because either the supply voltage has (See Datasheet)", 12 ENOUT (hiz) "Enable Output. An open-drain output that goes high impedance when the voltage at the OUT pin is above (VCC - 0.7V), indicating the external MOSFETs are fully on. The state of the pin is latched and resets when the OUT pin (See Datasheet)", 13 TMR (in) "Fault Timer Input. Connect a capacitor between this pin and ground to set the times for fault warning, fault turn-off, and cool down periods. Either voltage regulation or current regulation starts pulling up the TMR pin. The (See Datasheet)", 14 FB (in) "Voltage Regulator Feedback Input. Connect this pin to the resistive divider connected between the OUT pin and ground. During an overvoltage condition, the HGATE pin is controlled to maintain 1.25V at the FB pin. Connect to (See Datasheet)", 15 EP (power) "Exposed pad may be left open or connected to device ground (GND)."

## LTC4364CDE-2#PBF
designator U?
Surge Stopper with Ideal Diode, 4 to 80 V Vin, 14-pin SON (DE-14), 0 to 70 degC, Pb-Free; Manufacturer: Linear Technology; PartNumber: LTC4364CDE-2#PBF; Circuit Breaker Accuracy(%): 10; Circuit Breaker Threshold: 50 mV; Circuit Breakers(#): 1; Extended Temp: C, I, H; Fast Comparator: no; Vin Range: 4 to 80 V; PackageVersion: Rev. B, 06/2010; PackageReference: DE-14; PackageDescription: 14-Pin Plastic DFN, Body 4 x 3 mm, Pitch 0.5 mm; Supplier 1: Digi-Key; Supplier Part Number 1: LTC4364CDE-2#PBF-ND; Supplier 2: Newark; Supplier Part Number 2: 27W9461; Power Good: no; RoHS: TRUE; Mounting Technology: Surface Mount; Code_JEDEC: MO-229; ComponentLink1Description: Manufacturer URL; ComponentLink1URL: http://www.linear.com/; ComponentLink2Description: Datasheet; ComponentLink2URL: http://cds.linear.com/docs/en/datasheet/436412f.pdf; ComponentLink3Description: Package Specification; ComponentLink3URL: http://www.linear.com/docs/en/packaging/DFN_14_05-08-1708.pdf
footprint LT-DE-14_V (SON, 14-Leads, Body 4x3mm, Pitch 0.5mm, Thermal Pad 3.3x1.7mm)
pins: 1 OUT (in) "Output Voltage Sense Input. This pin senses the voltage at the drain of the external N-channel MOSFET connected to the DGATE pin. The voltage difference between VCC and OUT sets the fault timer current. When this difference (See Datasheet)", 2 SENSE (in) "Current Sense Input. Connect this pin to the input side of the current sense resistor. The current limit circuit controls the HGATE pin to limit the sense voltage between the SENSE and OUT pins to 50mV if OUT is above 2.5V. (See Datasheet)", 3 DGATE (out) "Diode Controller Gate Drive Output. When the load current creates more than 30mV of drop across the MOSFET, the DGATE pin is pulled high by an internal charge pump current source and clamped to 12V above the SOURCE pin. When (See Datasheet)", 4 SOURCE (in) "Common Source Input and Gate Drive Return. Connect this pin directly to the sources of the external back-to-back N-channel MOSFETs. SOURCE is the anode of the ideal diode and the voltage sensed between this pin and the SENSE (See Datasheet)", 5 HGATE (out) "Surge Stopper Gate Drive Output. The HGATE pin is pulled up by an internal charge pump current source and clamped to 12V above the SOURCE pin. Both voltage and current amplifiers control the HGATE pin to regulate the output (See Datasheet)", 6 VCC (power) "Positive Supply Voltage Input. The positive supply input ranges from 4V to 80V for normal operation. It can also be pulled below ground potential by up to 40V during a reverse battery condition, without damaging the part. (See Datasheet)", 7 ~{SHDN} (in) "Shutdown Control Input. Pulling the S\H\D\N\ pin below 0.5V shuts off the LTC4364 and reduces the VCC pin current to 10uA. Pull this pin above 2.2V or disconnect it to allow the internal current source to turn the part back (See Datasheet)", 8 UV (in) "Undervoltage Comparator Input. When the UV pin falls below its 1.25V threshold, the HGATE pin is pulled down with a 1mA current. When the UV pin rises above 1.25V plus the hysteresis, the HGATE pin is pulled up by the (See Datasheet)", 9 OV (in) "Overvoltage Comparator Input. When OV is above its threshold of 1.25V, the fault retry function is inhibited. When OV falls below its threshold, the HGATE pin is allowed to turn back on when fault conditions are cleared. At (See Datasheet)", 10 GND (power) "Device Ground.", 11 ~{FLT} (hiz) "Fault Output. An open-drain output that pulls low after the TMR pin reaches the warning threshold of 1.25V. It indicates the pass device controlled by the HGATE pin is about to turn off because either the supply voltage has (See Datasheet)", 12 ENOUT (hiz) "Enable Output. An open-drain output that goes high impedance when the voltage at the OUT pin is above (VCC - 0.7V), indicating the external MOSFETs are fully on. The state of the pin is latched and resets when the OUT pin (See Datasheet)", 13 TMR (in) "Fault Timer Input. Connect a capacitor between this pin and ground to set the times for fault warning, fault turn-off, and cool down periods. Either voltage regulation or current regulation starts pulling up the TMR pin. The (See Datasheet)", 14 FB (in) "Voltage Regulator Feedback Input. Connect this pin to the resistive divider connected between the OUT pin and ground. During an overvoltage condition, the HGATE pin is controlled to maintain 1.25V at the FB pin. Connect to (See Datasheet)", 15 EP (power) "Exposed pad may be left open or connected to device ground (GND)."